# EAGLE library part L293D (library l293d)
Motor driver
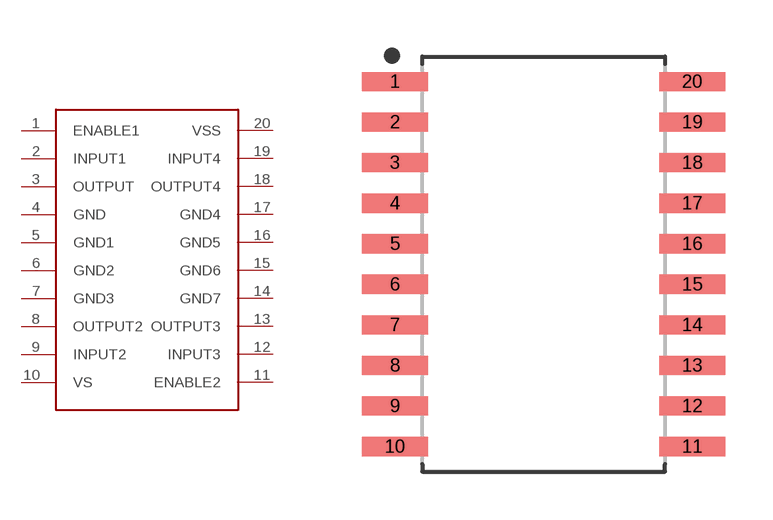
[diagram p0: symbol with the pads of SOIC127P1032X265-20N; footprint SOIC127P1032X265-20N]

Designator prefix -

## L293D  [SOIC127P1032X265-20N]
1  ENABLE1
2  INPUT1
3  OUTPUT
4  GND
5  GND1
6  GND2
7  GND3
8  OUTPUT2
9  INPUT2
10  VS
11  ENABLE2
12  INPUT3
13  OUTPUT3
14  GND7
15  GND6
16  GND5
17  GND4
18  OUTPUT4
19  INPUT4
20  VSS

## Footprint SOIC127P1032X265-20N (pad centres in mm)
20-SOIC, 1.27 mm pitch, 10.32 mm span, 12.80 X 7.50 X 2.65 mm body 20-pin SOIC package with 1.27 mm pitch, 10.32 mm span with body size 12.80 X 7.50 X 2.65 mm
smd 2.052 x 0.602: 1 -4.654,5.715; 2 -4.654,4.445; 3 -4.654,3.175; 4 -4.654,1.905; 5 -4.654,0.635; 6 -4.654,-0.635; 7 -4.654,-1.905; 8 -4.654,-3.175; 9 -4.654,-4.445; 10 -4.654,-5.715; 11 4.654,-5.715; 12 4.654,-4.445; 13 4.654,-3.175; 14 4.654,-1.905; 15 4.654,-0.635; 16 4.654,0.635; 17 4.654,1.905; 18 4.654,3.175; 19 4.654,4.445; 20 4.654,5.715